# EAGLE library part WE-FLEX_EFD15 (library Wurth_Power Magnetics_WE-FLEX)
WE-FLEX Flexible Transformer for DC/DC Converter Characteristics Transformer with 6 identical windings 4 sizes with 5 different lengths of air gap each Insulation test voltage 500 VAC Low leakage inductance Operating temperature: –40 ºC to +125 ºC By using different circuits more than 375 transformer solutions and about 125 choke solutions possible. Consequently, quick prototyping possibilities Applications All kind of switching regulators -Flyback converters -Forward converters -Push-pull converters -Step-up/step-down converters -SEPIC converter <https://katalog.we-online.com/media/images/v2/o14787v209%20Family_WE-FLEX.jpg> Details see: https://katalog.we-online.com/en/pbs/WE-FLEX Updated by Yingchun, Shan 2019-08-15 2019 (C) Wurth Elektronik
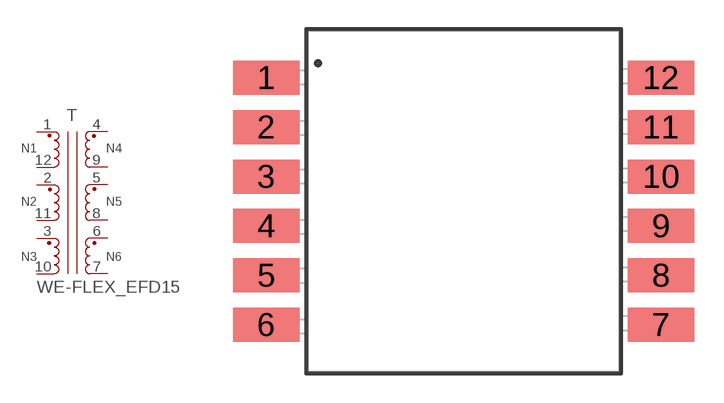
[diagram p0: symbol with the pads of WE-FLEX_EFD15; footprint WE-FLEX_EFD15]

Designator prefix T

## WE-FLEX_EFD15_749196301 (DATASHEET-URL: https://katalog.we-online.com/pbs/datasheet/749196301.pdf; IRBASE: 0.97A; ISATBASE: 0.02A; LSBASE: 0.13uH; N: 1:1:1:1:1:1; PART-NUMBER: 749196301; RDCBASE: 140mOhm; VALUE: 153.8uH; VOLTAGE-USECONDBASE: 39.8uVs; VT: 500 V (AC)), WE-FLEX_EFD15_749196311 (DATASHEET-URL: https://katalog.we-online.com/pbs/datasheet/749196311.pdf; IRBASE: 0.97A; ISATBASE: 0.33A; LSBASE: 0.13uH; N: 1:1:1:1:1:1; PART-NUMBER: 749196311; RDCBASE: 140mOhm; VALUE: 23.3uH; VOLTAGE-USECONDBASE: 39.8uVs; VT: 500 V (AC)), WE-FLEX_EFD15_749196321 (DATASHEET-URL: https://katalog.we-online.com/pbs/datasheet/749196321.pdf; IRBASE: 0.97A; ISATBASE: 0.63A; LSBASE: 0.13uH; N: 1:1:1:1:1:1; PART-NUMBER: 749196321; RDCBASE: 140mOhm; VALUE: 14.2uH; VOLTAGE-USECONDBASE: 39.8uVs; VT: 500 V (AC)), WE-FLEX_EFD15_749196331 (DATASHEET-URL: https://katalog.we-online.com/pbs/datasheet/749196331.pdf; IRBASE: 0.97A; ISATBASE: 1.09A; LSBASE: 0.13uH; N: 1:1:1:1:1:1; PART-NUMBER: 749196331; RDCBASE: 140mOhm; VALUE: 9.3uH; VOLTAGE-USECONDBASE: 39.8uVs; VT: 500 V (AC)), WE-FLEX_EFD15_749196341 (DATASHEET-URL: https://katalog.we-online.com/pbs/datasheet/749196341.pdf; IRBASE: 0.97A; ISATBASE: 1.33A; LSBASE: 0.13uH; N: 1:1:1:1:1:1; PART-NUMBER: 749196341; RDCBASE: 140mOhm; VALUE: 7.9uH; VOLTAGE-USECONDBASE: 39.8uVs; VT: 500 V (AC))  [WE-FLEX_EFD15]
1  1  pas
2  3  pas
3  5  pas
4  12  pas
5  10  pas
6  8  pas
7  7  pas
8  9  pas
9  11  pas
10  6  pas
11  4  pas
12  2  pas

## Footprint WE-FLEX_EFD15 (pad centres in mm)
WE-FLEX Flexible Transformer for DC/DC Converter Size: EFD15 SMD 12Pin
smd 3.43 x 1.75: 1 -10.155,6.35; 2 -10.155,3.81; 3 -10.155,1.27; 4 -10.155,-1.27; 5 -10.155,-3.81; 6 -10.155,-6.35; 7 10.155,-6.35; 8 10.155,-3.81; 9 10.155,-1.27; 10 10.155,1.27; 11 10.155,3.81; 12 10.155,6.35